# Altium schematic symbol library Atmega16.SchLib: 1 symbol
Pins are listed as number, name and electrical type; pins without a type are passive.

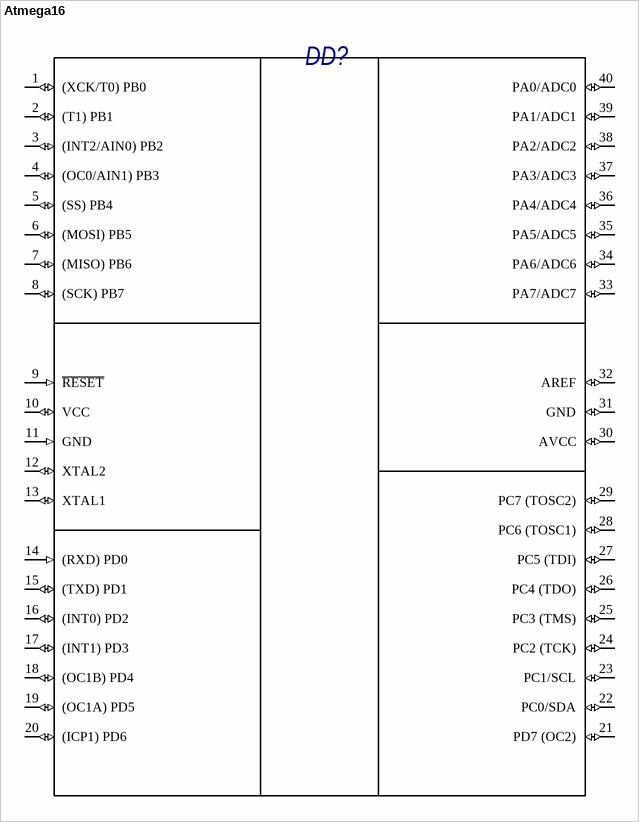
[diagram p0: symbol Atmega16]

## Atmega16
designator DD?
footprint 40DIP (DIP, 40-Leads, Row Spacing 15.24mm, Pitch 2.54mm, Body 52.2x13.95mm)
pins: 1 (XCK/T0) PB0 (io), 2 (T1) PB1 (io), 3 (INT2/AIN0) PB2 (io), 4 (OC0/AIN1) PB3 (io), 5 (SS) PB4 (io), 6 (MOSI) PB5 (io), 7 (MISO) PB6 (io), 8 (SCK) PB7 (io), 9 ~{RESET} (in), 10 VCC (io), 11 GND (in), 12 XTAL2 (io), 13 XTAL1 (io), 14 (RXD) PD0 (in), 15 (TXD) PD1 (io), 16 (INT0) PD2 (io), 17 (INT1) PD3 (io), 18 (OC1B) PD4 (io), 19 (OC1A) PD5 (io), 20 (ICP1) PD6 (io), 21 PD7 (OC2) (io), 22 PC0/SDA (io), 23 PC1/SCL (io), 24 PC2 (TCK) (io), 25 PC3 (TMS) (io), 26 PC4 (TDO) (io), 27 PC5 (TDI) (io), 28 PC6 (TOSC1) (io), 29 PC7 (TOSC2) (io), 30 AVCC (io), 31 GND (io), 32 AREF (io), 33 PA7/ADC7 (io), 34 PA6/ADC6 (io), 35 PA5/ADC5 (io), 36 PA4/ADC4 (io), 37 PA3/ADC3 (io), 38 PA2/ADC2 (io), 39 PA1/ADC1 (io), 40 PA0/ADC0 (io)